# EAGLE library part 690367191072 (library Board-to-Board (rev18a))
WR-MM Female Connector with Latch and without Polarization, 10 Pins=>Code : Con_BTB_MM_Female_THT_St_690367191072 <http://katalog.we-online.de/media/thumbs2/eican/thb_Con_BTB_MM_Female_THT_St_69036719xx72_pf2.jpg> Details see: http://katalog.we-online.de/en/em/6903_6719_xx_72 Created 2014-06-04, Karrer Zheng 2014 (C) Würth Elektronik
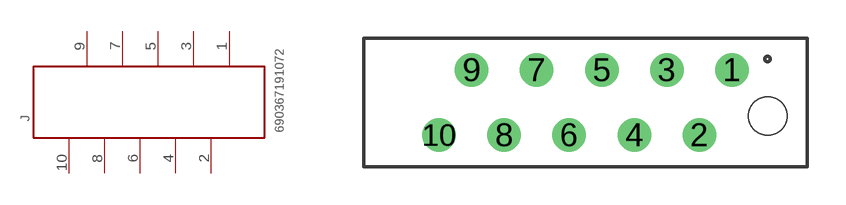
[diagram p340: symbol with the pads of 690367191072; footprint 690367191072]

Designator prefix J

## 690367191072  [690367191072]
1  10  pas
2  9  pas
3  8  pas
4  7  pas
5  6  pas
6  5  pas
7  4  pas
8  3  pas
9  2  pas
10  1  pas

## Footprint 690367191072 (pad centres in mm)
WR-MM Female Connector with Latch and without Polarization, 10 Pins
drill 0.8: 1 5.715,1.27; 2 4.445,-1.27; 3 3.175,1.27; 4 1.905,-1.27; 5 0.635,1.27; 6 -0.635,-1.27; 7 -1.905,1.27; 8 -3.175,-1.27; 9 -4.445,1.27; 10 -5.715,-1.27
hole 1.5 at 7.115,-0.53